# Altium schematic symbol library Inductors_EFR.SchLib: 5 symbols
Pins are listed as number, name and electrical type; pins without a type are passive.

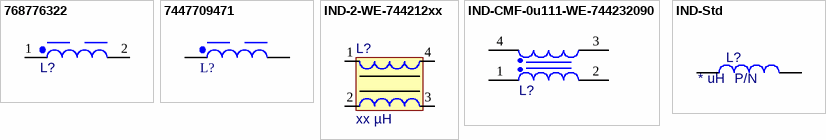
[diagram p0: symbols 768776322 to IND-Std]

## 768776322
designator L?, comment 2200µH, 0.18A  (value not drawn)
WE-PD2 HV SMT High Voltage Power Inductor, size 1054, 2200µH, 0.18A, 5.3Ω; Manufacturer P/N: 768776322; Manufacturer: Wurth Elektronik; Case/Size Code: 1054; DC Resistance: 4.4Ω; Operating Voltage (DC): 400V; Saturation Current: 0.26A; Self Resonant Frequency: 1.3MHz; Category: High Voltage Power Inductors; Match Code: WE-PD2 HV; ComponentLink1Description: Website Link; ComponentLink1URL: https://www.we-online.com/redexpert/article/768776322?ad; ComponentLink2Description: Datasheet Link; ComponentLink2URL: https://www.we-online.com/redexpert/spec/768776322?ad; Mounting Technology: SMT; Operating Temperature Max: 125°C; Operating Temperature Min: -40°C; Packaging: Tape and Reel; Length: 10mm; Width: 9mm; Height: 5.4mm; DC Resistance Max: 5.3Ω; Inductance: 2200µH; Rated Current: 0.18A
simulation model 1054_768776322_2.2m
footprint WE-PD2 HV_1054 (SMT High Voltage Power Inductor, 2-Leads, body 10.00x9.00mm)
pins: 1, 2

## 7447709471
designator L?, comment 470uH, 1.4A  (value not drawn)
WE-PD SMT Power Inductor, size 1210, 470uH, 1.4A, 560mOhm; Manufacturer Part Number: 7447709471; Manufacturer: Wurth Elektronik; Case/Size Code: 1210; DC Resistance: 437mOhm; Saturation Current: 1.5A; Self Resonant Frequency: 1.8MHz; Type: Standard; Category: Power Inductors; Match Code: WE-PD; ComponentLink1Description: Website Link; ComponentLink1URL: https://www.we-online.com/redexpert/article/7447709471?ad; ComponentLink2Description: Datasheet Link; ComponentLink2URL: https://www.we-online.com/redexpert/spec/7447709471?ad; Mount: Surface Mount; Operating Temperature Max: 125°C; Operating Temperature Min: -40°C; Packaging: Tape and Reel; Length: 12mm; Width: 12mm; Height: 10mm; DC Resistance Max: 560mOhm; Inductance: 470uH; Rated Current: 1.4A
footprint WE-PD_1210
simulation model 1210_7447709471_470u
pins: 1, 2

## IND-2-WE-744212xx
designator L?, comment Inductance: xx µH  (hidden comment: 744212xxx)
SMD Common Mode Line Filter WE-SL1, L = xxx µH; Manufacturer: Wurth Elektronik; ComponentLink2Description: Datasheet; PackageReference: WE-SL1; PackageDescription: SMD Inductor, 4-Leads, Body 3.8 x 6.5 mm; ComponentLink2URL: http://www.we-online.de/katalog/media/pdf/744212101.pdf; ComponentLink1Description: Manufacturer Link; ComponentLink1URL: http://www.we-online.com; PartNumber: 744212xxx
footprint WE-SL1 (SMD Inductor, 4-Leads, Body 3.8 x 6.5 mm)
pins: 1, 2, 3, 4

## IND-CMF-0u111-WE-744232090
designator L?, comment 90Ohm  (value not drawn)
WE-CNSW SMT Common Mode Line Filter, size 1206, 90Ohm, 0.111uH, 50V; Manufacturer: Wurth Elektronik; PartNumber: 744232090; Case/Size Code: 1206; DC Resistance Max: 0.3Ohm; Insulation Test Voltage: 125VAC; Rated Current: 0.37A; Winding Style: bifiliar; ComponentLink1Description: Manufacturer Link; ComponentLink1URL: https://www.we-online.com/redexpert/article/744232090?ad; ComponentLink2Description: Datasheet; ComponentLink2URL: https://www.we-online.com/redexpert/spec/744232090?ad; Category: Common Mode Chokes; Match Code: WE-CNSW; Mount: Surface Mount; Operating Temperature Max: 125°C; Operating Temperature Min: -40°C; Packaging: Tape and Reel; Length: 3.2mm; Width: 1.6mm; Height: 1.8mm; Impedance @100MHz: 90Ohm; Inductance: 0.111uH; Rated Voltage: 50V
footprint WE-CNSW_1206
pins: 1, 2, 3, 4

## IND-Std
designator L?, comment PartNumber: P/N  Inductance: * uH  (hidden comment: Inductor)
ComponentLink1Description: Manufacturer; ComponentLink1URL: http://www.we-online.de; ComponentLink2Description: Datasheet; ComponentLink2URL: https://katalog.we-online.de/pbs/datasheet/744032100.pdf; DC Resistance max.: *; Operating Temperature: *; Package: *; Manufacturer: *
footprint WE-LQ_1210
footprint WE-LQ_1812 (SMT Inductor, body 4.5x3.2mm)
footprint 2512(6432)_N (Chip Resistor, Body 6.4x3.2mm, IPC Medium Density)
footprint 2512(6432)_M (Chip Resistor, Body 6.4x3.2mm, IPC Low Density)
footprint 2512(6432)_L (Chip Resistor, Body 6.4x3.2mm, IPC High Density)
pins: 1, 2